# EAGLE library part DIGAMPOUT_PCB (library ppmac)
This is the PCB side to connect to the power PMAC digital amplifier board
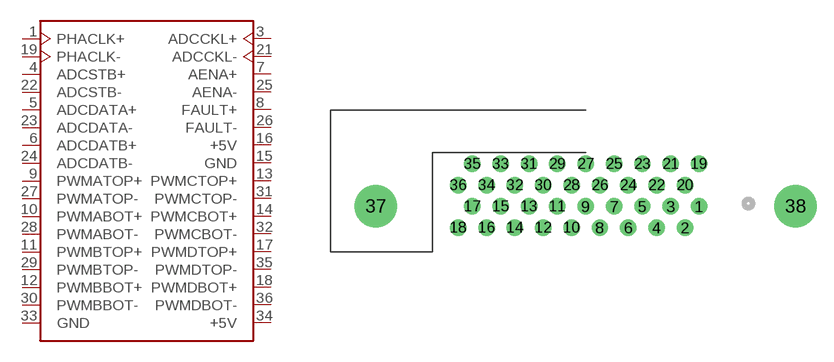
[diagram p0: symbol with the pads of 3M_10136-52B2PC_PCB; footprint 3M_10136-52B2PC_PCB]

Designator prefix -

## DIGAMPOUT_PCB  [3M_10136-52B2PC_PCB]
1  PHACLK+  out
3  ADCCKL+  out
4  ADCSTB+  out
5  ADCDATA+  in
6  ADCDATB+  in
7  AENA+  out
8  FAULT+  in
9  PWMATOP+  out
10  PWMABOT+  out
11  PWMBTOP+  out
12  PWMBBOT+  out
13  PWMCTOP+  out
14  PWMCBOT+  out
15  GND  sup
16  +5V  sup
17  PWMDTOP+  out
18  PWMDBOT+  out
19  PHACLK-  out
21  ADCCKL-  out
22  ADCSTB-  out
23  ADCDATA-  in
24  ADCDATB-  in
25  AENA-  out
26  FAULT-  in
27  PWMATOP-  out
28  PWMABOT-  out
29  PWMBTOP-  out
30  PWMBBOT-  out
31  PWMCTOP-  out
32  PWMCBOT-  out
33  GND  sup
34  +5V  sup
35  PWMDTOP-  out
36  PWMDBOT-  out

## Footprint 3M_10136-52B2PC_PCB (pad centres in mm)
drill 0.965: 1 10.16,0; 2 8.89,-1.905; 3 7.62,0; 4 6.35,-1.905; 5 5.08,0; 6 3.81,-1.905; 7 2.54,0; 8 1.27,-1.905; 9 0,0; 10 -1.27,-1.905; 11 -2.54,0; 12 -3.81,-1.905; 13 -5.08,0; 14 -6.35,-1.905; 15 -7.62,0; 16 -8.89,-1.905; 17 -10.16,0; 18 -11.43,-1.905; 19 10.16,3.81; 20 8.89,1.905; 21 7.62,3.81; 22 6.35,1.905; 23 5.08,3.81; 24 3.81,1.905; 25 2.54,3.81; 26 1.27,1.905; 27 0,3.81; 28 -1.27,1.905; 29 -2.54,3.81; 30 -3.81,1.905; 31 -5.08,3.81; 32 -6.35,1.905; 33 -7.62,3.81; 34 -8.89,1.905; 35 -10.16,3.81; 36 -11.43,1.905
drill 2.794: 37 -18.809,0; 38 18.809,0